# Altium integrated library Atmel CPLD Proprietary.IntLib: 178 symbols (part 2 of 5)
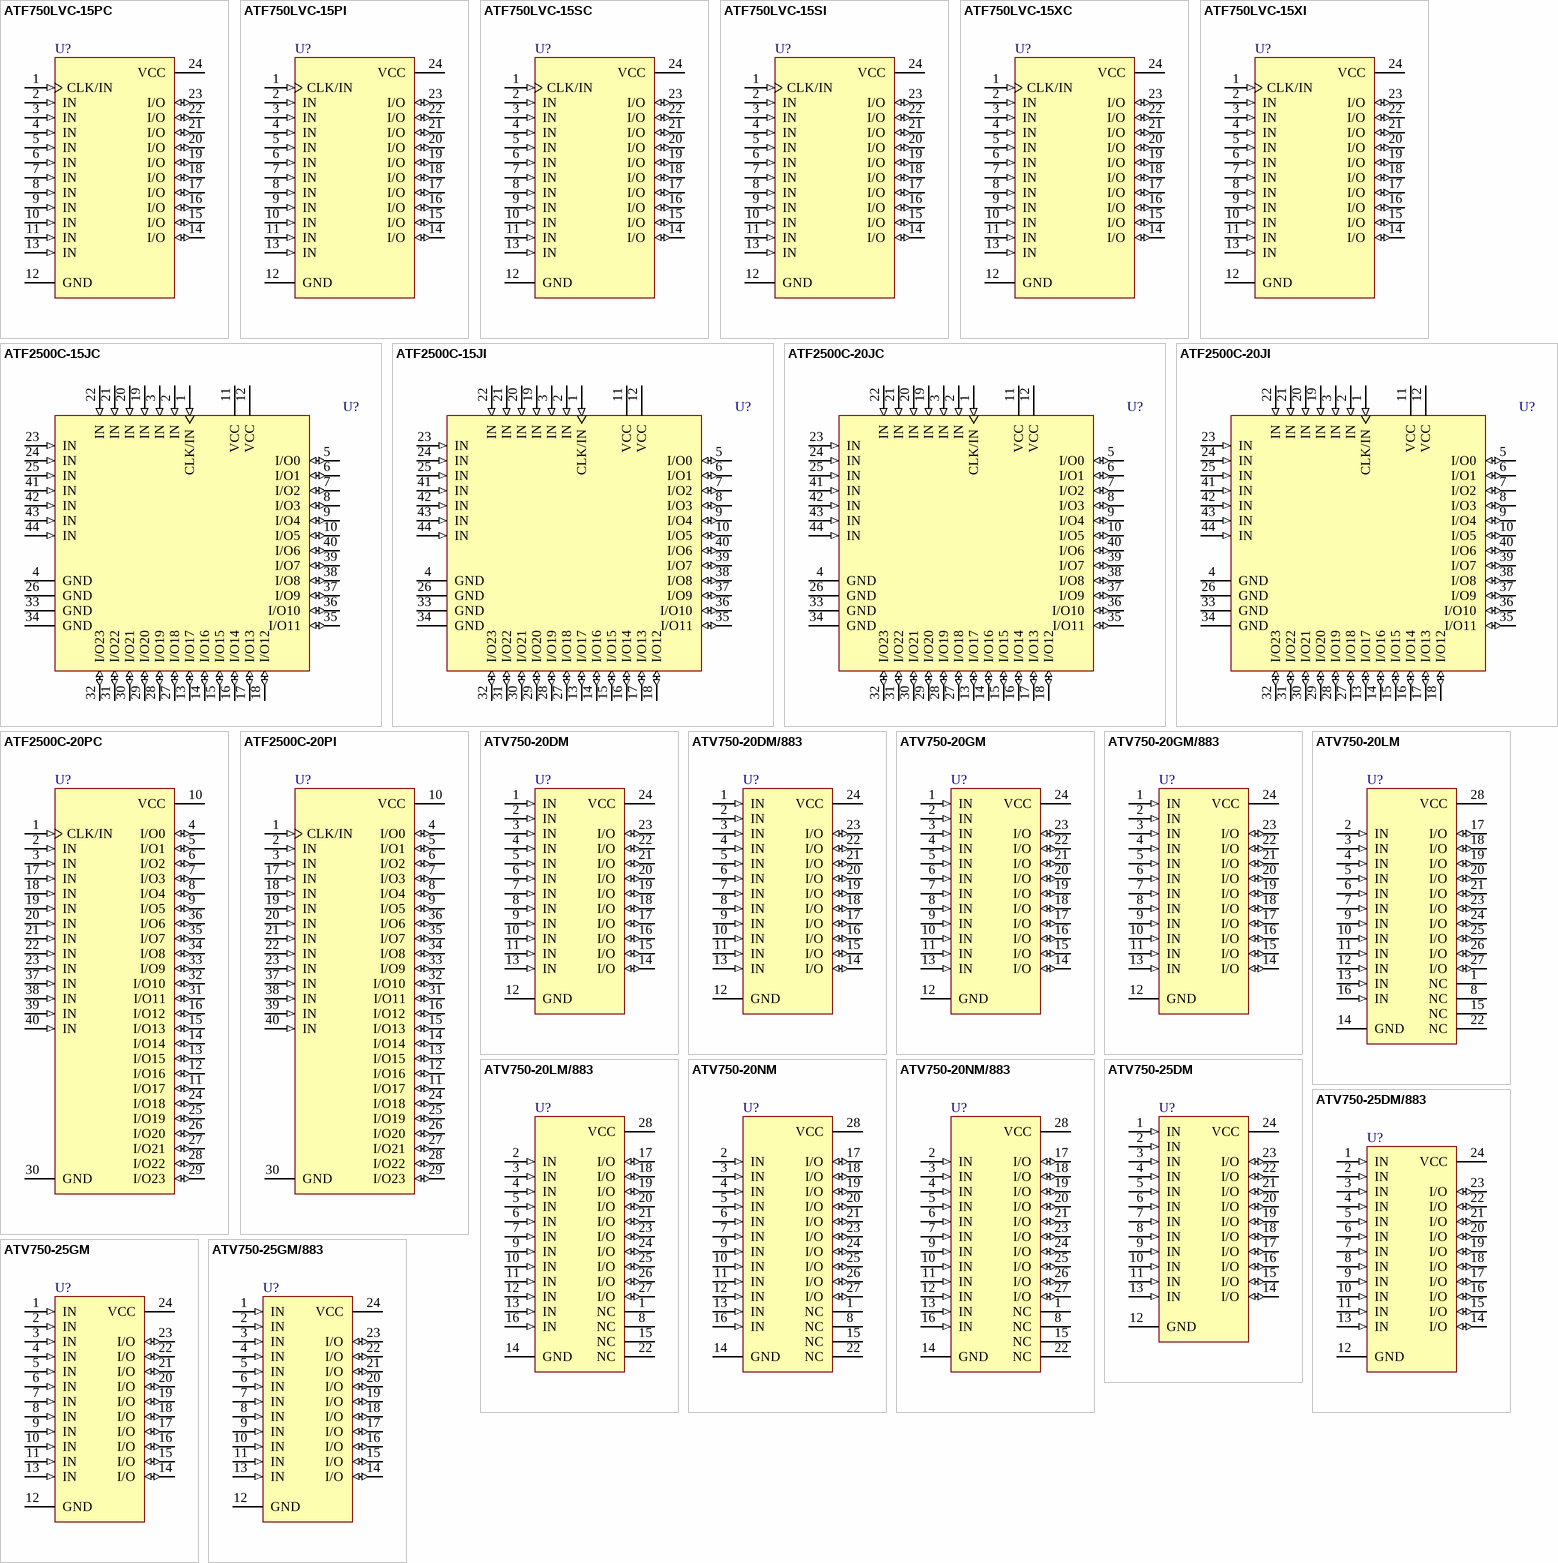
[diagram p11: symbols ATF750LVC-15PC to ATV750-25GM/883]

## ATV750-25GM/883
designator U?
ATV750 5.0V CPLD, 24-lead Non-windowed (OTP) CerDIP, Speed Grade 25, Military/883C Grade; DatasheetVersion: Rev. 0024F-11/99; PackageVersion: 1993; PackageReference: 24D3; PackageDescription: DIP, 24-Pin, Skinny Dual In-line Package, 300mil Wide, Pitch 2.54 mm; Code_JEDEC: MS-001-AF; ComponentLink1Description: Manufacturer URL; ComponentLink1URL: http://www.atmel.com/
footprint 24D3 (DIP, 24-Leads, Row Spacing 7.62mm, Pitch 2.54mm, Body 32x7.56mm)
pins: 1 IN (in), 2 IN (in), 3 IN (in), 4 IN (in), 5 IN (in), 6 IN (in), 7 IN (in), 8 IN (in), 9 IN (in), 10 IN (in), 11 IN (in), 12 GND (power), 13 IN (in), 14 I/O (io), 15 I/O (io), 16 I/O (io), 17 I/O (io), 18 I/O (io), 19 I/O (io), 20 I/O (io), 21 I/O (io), 22 I/O (io), 23 I/O (io), 24 VCC (power)

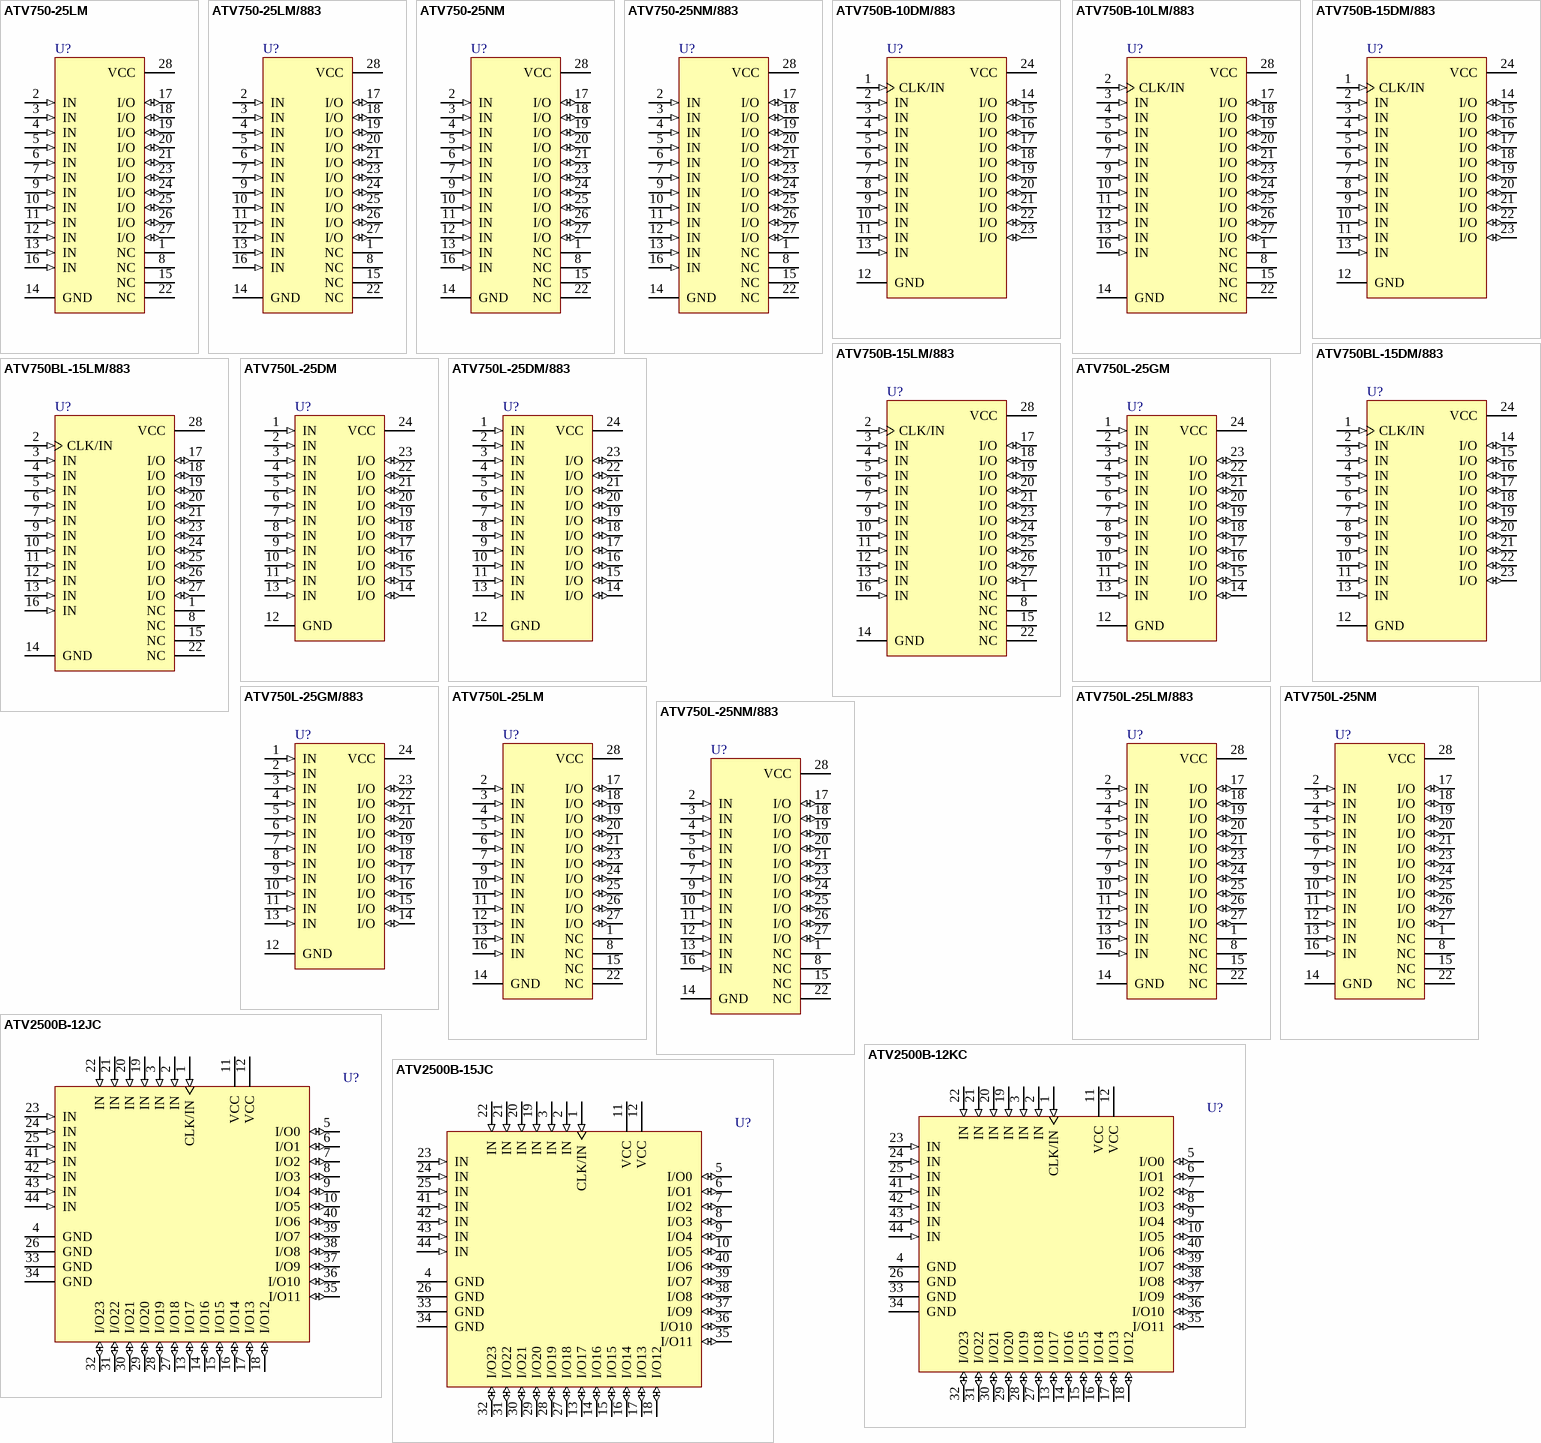
[diagram p2: symbols ATV750-25LM to ATV2500B-15JC]

## ATV750-25LM
designator U?
ATV750 5.0V CPLD, 28-pad Windowed LCC, Speed Grade 25, Military Grade; Note: Pins 1, 8, 15, and 22 are not internally connected.; DatasheetVersion: Rev. 0024F-11/99; PackageVersion: 1993; PackageReference: 28LW; PackageDescription: 28-Pin Window Ceramic Leadless Chip Carrier 1.27 mm Pitch; ComponentLink1Description: Manufacturer URL; ComponentLink1URL: http://www.atmel.com/
footprint 28LW_N (Leadless Chip Carrier, 28-Leads, Body 11.4x11.4mm, Pitch 1.27mm, IPC Medium Density)
footprint 28LW_L (Leadless Chip Carrier, 28-Leads, Body 11.4x11.4mm, Pitch 1.27mm, IPC High Density)
footprint 28LW_M (Leadless Chip Carrier, 28-Leads, Body 11.4x11.4mm, Pitch 1.27mm, IPC Low Density)
pins: 1 NC, 2 IN (in), 3 IN (in), 4 IN (in), 5 IN (in), 6 IN (in), 7 IN (in), 8 NC, 9 IN (in), 10 IN (in), 11 IN (in), 12 IN (in), 13 IN (in), 14 GND (power), 15 NC, 16 IN (in), 17 I/O (io), 18 I/O (io), 19 I/O (io), 20 I/O (io), 21 I/O (io), 22 NC, 23 I/O (io), 24 I/O (io), 25 I/O (io), 26 I/O (io), 27 I/O (io), 28 VCC (power)

## ATV750-25LM/883
designator U?
ATV750 5.0V CPLD, 28-pad Windowed LCC, Speed Grade 25, Military/883C Grade; Note: Pins 1, 8, 15, and 22 are not internally connected.; DatasheetVersion: Rev. 0024F-11/99; PackageVersion: 1993; PackageReference: 28LW; PackageDescription: 28-Pin Window Ceramic Leadless Chip Carrier 1.27 mm Pitch; ComponentLink1Description: Manufacturer URL; ComponentLink1URL: http://www.atmel.com/
footprint 28LW_N (Leadless Chip Carrier, 28-Leads, Body 11.4x11.4mm, Pitch 1.27mm, IPC Medium Density)
footprint 28LW_L (Leadless Chip Carrier, 28-Leads, Body 11.4x11.4mm, Pitch 1.27mm, IPC High Density)
footprint 28LW_M (Leadless Chip Carrier, 28-Leads, Body 11.4x11.4mm, Pitch 1.27mm, IPC Low Density)
pins: 1 NC, 2 IN (in), 3 IN (in), 4 IN (in), 5 IN (in), 6 IN (in), 7 IN (in), 8 NC, 9 IN (in), 10 IN (in), 11 IN (in), 12 IN (in), 13 IN (in), 14 GND (power), 15 NC, 16 IN (in), 17 I/O (io), 18 I/O (io), 19 I/O (io), 20 I/O (io), 21 I/O (io), 22 NC, 23 I/O (io), 24 I/O (io), 25 I/O (io), 26 I/O (io), 27 I/O (io), 28 VCC (power)

## ATV750-25NM
designator U?
ATV750 5.0V CPLD, 28-pad Non-windowed (OTP) LCC, Speed Grade 25, Military Grade; Note: Pins 1, 8, 15, and 22 are not internally connected.; DatasheetVersion: Rev. 0024F-11/99; PackageVersion: 1/12/1999; PackageReference: 28L; PackageDescription: 28-Pin Ceramic Leadless Chip Carrier 1.27 mm Pitch; ComponentLink1Description: Manufacturer URL; ComponentLink1URL: http://www.atmel.com/
footprint 28L_N (Leadless Chip Carrier, 28-Leads, Body 11.4x11.4mm, Pitch 1.27mm, IPC Medium Density)
footprint 28L_L (Leadless Chip Carrier, 28-Leads, Body 11.4x11.4mm, Pitch 1.27mm, IPC High Density)
footprint 28L_M (Leadless Chip Carrier, 28-Leads, Body 11.4x11.4mm, Pitch 1.27mm, IPC Low Density)
pins: 1 NC, 2 IN (in), 3 IN (in), 4 IN (in), 5 IN (in), 6 IN (in), 7 IN (in), 8 NC, 9 IN (in), 10 IN (in), 11 IN (in), 12 IN (in), 13 IN (in), 14 GND (power), 15 NC, 16 IN (in), 17 I/O (io), 18 I/O (io), 19 I/O (io), 20 I/O (io), 21 I/O (io), 22 NC, 23 I/O (io), 24 I/O (io), 25 I/O (io), 26 I/O (io), 27 I/O (io), 28 VCC (power)

## ATV750-25NM/883
designator U?
ATV750 5.0V CPLD, 28-pad Non-windowed (OTP) LCC, Speed Grade 25, Military/883C Grade; Note: Pins 1, 8, 15, and 22 are not internally connected.; DatasheetVersion: Rev. 0024F-11/99; PackageVersion: 1/12/1999; PackageReference: 28L; PackageDescription: 28-Pin Ceramic Leadless Chip Carrier 1.27 mm Pitch; ComponentLink1Description: Manufacturer URL; ComponentLink1URL: http://www.atmel.com/
footprint 28L_N (Leadless Chip Carrier, 28-Leads, Body 11.4x11.4mm, Pitch 1.27mm, IPC Medium Density)
footprint 28L_L (Leadless Chip Carrier, 28-Leads, Body 11.4x11.4mm, Pitch 1.27mm, IPC High Density)
footprint 28L_M (Leadless Chip Carrier, 28-Leads, Body 11.4x11.4mm, Pitch 1.27mm, IPC Low Density)
pins: 1 NC, 2 IN (in), 3 IN (in), 4 IN (in), 5 IN (in), 6 IN (in), 7 IN (in), 8 NC, 9 IN (in), 10 IN (in), 11 IN (in), 12 IN (in), 13 IN (in), 14 GND (power), 15 NC, 16 IN (in), 17 I/O (io), 18 I/O (io), 19 I/O (io), 20 I/O (io), 21 I/O (io), 22 NC, 23 I/O (io), 24 I/O (io), 25 I/O (io), 26 I/O (io), 27 I/O (io), 28 VCC (power)

## ATV750B-10DM/883
designator U?
ATV750B 5.0V CPLD, 24-lead Windowed CerDIP, Speed Grade 10, Military/883C Grade; DatasheetVersion: Rev. 0301I-08/01; PackageVersion: 1993; PackageReference: 24DW3; PackageDescription: DIP, 24-Pin, Skinny Dual In-line Package, 300mil Wide, Pitch 2.54 mm; Code_JEDEC: MS-001-AF; ComponentLink1Description: Manufacturer URL; ComponentLink1URL: http://www.atmel.com/; ComponentLink2Description: Datasheet; ComponentLink2URL: http://www.atmel.com/dyn/resources/prod_documents/DOC0301.PDF
footprint 24DW3 (DIP, 24-Leads, Row Spacing 7.62mm, Pitch 2.54mm, Body 32x7.56mm)
pins: 1 CLK/IN (in), 2 IN (in), 3 IN (in), 4 IN (in), 5 IN (in), 6 IN (in), 7 IN (in), 8 IN (in), 9 IN (in), 10 IN (in), 11 IN (in), 12 GND (power), 13 IN (in), 14 I/O (io), 15 I/O (io), 16 I/O (io), 17 I/O (io), 18 I/O (io), 19 I/O (io), 20 I/O (io), 21 I/O (io), 22 I/O (io), 23 I/O (io), 24 VCC (power)

## ATV750B-10LM/883
designator U?
ATV750B 5.0V CPLD, 28-pad Windowed LCC, Speed Grade 10, Military/883C Grade; Note: Pins 1, 8, 15, and 22 are not internally connected.; DatasheetVersion: Rev. 0301I-08/01; PackageVersion: 1993; PackageReference: 28LW; PackageDescription: 28-Pin Window Ceramic Leadless Chip Carrier 1.27 mm Pitch; ComponentLink1Description: Manufacturer URL; ComponentLink1URL: http://www.atmel.com/; ComponentLink2Description: Datasheet; ComponentLink2URL: http://www.atmel.com/dyn/resources/prod_documents/DOC0301.PDF
footprint 28LW_N (Leadless Chip Carrier, 28-Leads, Body 11.4x11.4mm, Pitch 1.27mm, IPC Medium Density)
footprint 28LW_L (Leadless Chip Carrier, 28-Leads, Body 11.4x11.4mm, Pitch 1.27mm, IPC High Density)
footprint 28LW_M (Leadless Chip Carrier, 28-Leads, Body 11.4x11.4mm, Pitch 1.27mm, IPC Low Density)
pins: 1 NC, 2 CLK/IN (in), 3 IN (in), 4 IN (in), 5 IN (in), 6 IN (in), 7 IN (in), 8 NC, 9 IN (in), 10 IN (in), 11 IN (in), 12 IN (in), 13 IN (in), 14 GND (power), 15 NC, 16 IN (in), 17 I/O (io), 18 I/O (io), 19 I/O (io), 20 I/O (io), 21 I/O (io), 22 NC, 23 I/O (io), 24 I/O (io), 25 I/O (io), 26 I/O (io), 27 I/O (io), 28 VCC (power)

## ATV750B-15DM/883
designator U?
ATV750B 5.0V CPLD, 24-lead Windowed CerDIP, Speed Grade 15, Military/883C Grade; DatasheetVersion: Rev. 0301I-08/01; PackageVersion: 1993; PackageReference: 24DW3; PackageDescription: DIP, 24-Pin, Skinny Dual In-line Package, 300mil Wide, Pitch 2.54 mm; Code_JEDEC: MS-001-AF; ComponentLink1Description: Manufacturer URL; ComponentLink1URL: http://www.atmel.com/; ComponentLink2Description: Datasheet; ComponentLink2URL: http://www.atmel.com/dyn/resources/prod_documents/DOC0301.PDF
footprint 24DW3 (DIP, 24-Leads, Row Spacing 7.62mm, Pitch 2.54mm, Body 32x7.56mm)
pins: 1 CLK/IN (in), 2 IN (in), 3 IN (in), 4 IN (in), 5 IN (in), 6 IN (in), 7 IN (in), 8 IN (in), 9 IN (in), 10 IN (in), 11 IN (in), 12 GND (power), 13 IN (in), 14 I/O (io), 15 I/O (io), 16 I/O (io), 17 I/O (io), 18 I/O (io), 19 I/O (io), 20 I/O (io), 21 I/O (io), 22 I/O (io), 23 I/O (io), 24 VCC (power)

## ATV750B-15LM/883
designator U?
ATV750B 5.0V CPLD, 28-pad Windowed LCC, Speed Grade 15, Military/883C Grade; Note: Pins 1, 8, 15, and 22 are not internally connected.; DatasheetVersion: Rev. 0301I-08/01; PackageVersion: 1993; PackageReference: 28LW; PackageDescription: 28-Pin Window Ceramic Leadless Chip Carrier 1.27 mm Pitch; ComponentLink1Description: Manufacturer URL; ComponentLink1URL: http://www.atmel.com/; ComponentLink2Description: Datasheet; ComponentLink2URL: http://www.atmel.com/dyn/resources/prod_documents/DOC0301.PDF
footprint 28LW_N (Leadless Chip Carrier, 28-Leads, Body 11.4x11.4mm, Pitch 1.27mm, IPC Medium Density)
footprint 28LW_L (Leadless Chip Carrier, 28-Leads, Body 11.4x11.4mm, Pitch 1.27mm, IPC High Density)
footprint 28LW_M (Leadless Chip Carrier, 28-Leads, Body 11.4x11.4mm, Pitch 1.27mm, IPC Low Density)
pins: 1 NC, 2 CLK/IN (in), 3 IN (in), 4 IN (in), 5 IN (in), 6 IN (in), 7 IN (in), 8 NC, 9 IN (in), 10 IN (in), 11 IN (in), 12 IN (in), 13 IN (in), 14 GND (power), 15 NC, 16 IN (in), 17 I/O (io), 18 I/O (io), 19 I/O (io), 20 I/O (io), 21 I/O (io), 22 NC, 23 I/O (io), 24 I/O (io), 25 I/O (io), 26 I/O (io), 27 I/O (io), 28 VCC (power)

## ATV750BL-15DM/883
designator U?
ATV750BL 5.0V CPLD, 24-lead Windowed CerDIP, Speed Grade 15, Military/883C Grade; DatasheetVersion: Rev. 0301I-08/01; PackageVersion: 1993; PackageReference: 24DW3; PackageDescription: DIP, 24-Pin, Skinny Dual In-line Package, 300mil Wide, Pitch 2.54 mm; Code_JEDEC: MS-001-AF; ComponentLink1Description: Manufacturer URL; ComponentLink1URL: http://www.atmel.com/; ComponentLink2Description: Datasheet; ComponentLink2URL: http://www.atmel.com/dyn/resources/prod_documents/DOC0301.PDF
footprint 24DW3 (DIP, 24-Leads, Row Spacing 7.62mm, Pitch 2.54mm, Body 32x7.56mm)
pins: 1 CLK/IN (in), 2 IN (in), 3 IN (in), 4 IN (in), 5 IN (in), 6 IN (in), 7 IN (in), 8 IN (in), 9 IN (in), 10 IN (in), 11 IN (in), 12 GND (power), 13 IN (in), 14 I/O (io), 15 I/O (io), 16 I/O (io), 17 I/O (io), 18 I/O (io), 19 I/O (io), 20 I/O (io), 21 I/O (io), 22 I/O (io), 23 I/O (io), 24 VCC (power)

## ATV750BL-15LM/883
designator U?
ATV750BL 5.0V CPLD, 28-pad Windowed LCC, Speed Grade 15, Military/883C Grade; Note: Pins 1, 8, 15, and 22 are not internally connected.; DatasheetVersion: Rev. 0301I-08/01; PackageVersion: 1993; PackageReference: 28LW; PackageDescription: 28-Pin Window Ceramic Leadless Chip Carrier 1.27 mm Pitch; ComponentLink1Description: Manufacturer URL; ComponentLink1URL: http://www.atmel.com/; ComponentLink2Description: Datasheet; ComponentLink2URL: http://www.atmel.com/dyn/resources/prod_documents/DOC0301.PDF
footprint 28LW_N (Leadless Chip Carrier, 28-Leads, Body 11.4x11.4mm, Pitch 1.27mm, IPC Medium Density)
footprint 28LW_L (Leadless Chip Carrier, 28-Leads, Body 11.4x11.4mm, Pitch 1.27mm, IPC High Density)
footprint 28LW_M (Leadless Chip Carrier, 28-Leads, Body 11.4x11.4mm, Pitch 1.27mm, IPC Low Density)
pins: 1 NC, 2 CLK/IN (in), 3 IN (in), 4 IN (in), 5 IN (in), 6 IN (in), 7 IN (in), 8 NC, 9 IN (in), 10 IN (in), 11 IN (in), 12 IN (in), 13 IN (in), 14 GND (power), 15 NC, 16 IN (in), 17 I/O (io), 18 I/O (io), 19 I/O (io), 20 I/O (io), 21 I/O (io), 22 NC, 23 I/O (io), 24 I/O (io), 25 I/O (io), 26 I/O (io), 27 I/O (io), 28 VCC (power)

## ATV750L-25DM
designator U?
ATV750L 5.0V CPLD, 24-lead Windowed CerDIP, Speed Grade 25, Military Grade; DatasheetVersion: Rev. 0024F-11/99; PackageVersion: 1993; PackageReference: 24DW3; PackageDescription: DIP, 24-Pin, Skinny Dual In-line Package, 300mil Wide, Pitch 2.54 mm; Code_JEDEC: MS-001-AF; ComponentLink1Description: Manufacturer URL; ComponentLink1URL: http://www.atmel.com/
footprint 24DW3 (DIP, 24-Leads, Row Spacing 7.62mm, Pitch 2.54mm, Body 32x7.56mm)
pins: 1 IN (in), 2 IN (in), 3 IN (in), 4 IN (in), 5 IN (in), 6 IN (in), 7 IN (in), 8 IN (in), 9 IN (in), 10 IN (in), 11 IN (in), 12 GND (power), 13 IN (in), 14 I/O (io), 15 I/O (io), 16 I/O (io), 17 I/O (io), 18 I/O (io), 19 I/O (io), 20 I/O (io), 21 I/O (io), 22 I/O (io), 23 I/O (io), 24 VCC (power)

## ATV750L-25DM/883
designator U?
ATV750L 5.0V CPLD, 24-lead Windowed CerDIP, Speed Grade 25, Military/883C Grade; DatasheetVersion: Rev. 0024F-11/99; PackageVersion: 1993; PackageReference: 24DW3; PackageDescription: DIP, 24-Pin, Skinny Dual In-line Package, 300mil Wide, Pitch 2.54 mm; Code_JEDEC: MS-001-AF; ComponentLink1Description: Manufacturer URL; ComponentLink1URL: http://www.atmel.com/
footprint 24DW3 (DIP, 24-Leads, Row Spacing 7.62mm, Pitch 2.54mm, Body 32x7.56mm)
pins: 1 IN (in), 2 IN (in), 3 IN (in), 4 IN (in), 5 IN (in), 6 IN (in), 7 IN (in), 8 IN (in), 9 IN (in), 10 IN (in), 11 IN (in), 12 GND (power), 13 IN (in), 14 I/O (io), 15 I/O (io), 16 I/O (io), 17 I/O (io), 18 I/O (io), 19 I/O (io), 20 I/O (io), 21 I/O (io), 22 I/O (io), 23 I/O (io), 24 VCC (power)

## ATV750L-25GM
designator U?
ATV750L 5.0V CPLD, 24-lead Non-windowed (OTP) CerDIP, Speed Grade 25, Military Grade; DatasheetVersion: Rev. 0024F-11/99; PackageVersion: 1993; PackageReference: 24D3; PackageDescription: DIP, 24-Pin, Skinny Dual In-line Package, 300mil Wide, Pitch 2.54 mm; Code_JEDEC: MS-001-AF; ComponentLink1Description: Manufacturer URL; ComponentLink1URL: http://www.atmel.com/
footprint 24D3 (DIP, 24-Leads, Row Spacing 7.62mm, Pitch 2.54mm, Body 32x7.56mm)
pins: 1 IN (in), 2 IN (in), 3 IN (in), 4 IN (in), 5 IN (in), 6 IN (in), 7 IN (in), 8 IN (in), 9 IN (in), 10 IN (in), 11 IN (in), 12 GND (power), 13 IN (in), 14 I/O (io), 15 I/O (io), 16 I/O (io), 17 I/O (io), 18 I/O (io), 19 I/O (io), 20 I/O (io), 21 I/O (io), 22 I/O (io), 23 I/O (io), 24 VCC (power)

## ATV750L-25GM/883
designator U?
ATV750L 5.0V CPLD, 24-lead Non-windowed (OTP) CerDIP, Speed Grade 25, Military/883C Grade; DatasheetVersion: Rev. 0024F-11/99; PackageVersion: 1993; PackageReference: 24D3; PackageDescription: DIP, 24-Pin, Skinny Dual In-line Package, 300mil Wide, Pitch 2.54 mm; Code_JEDEC: MS-001-AF; ComponentLink1Description: Manufacturer URL; ComponentLink1URL: http://www.atmel.com/
footprint 24D3 (DIP, 24-Leads, Row Spacing 7.62mm, Pitch 2.54mm, Body 32x7.56mm)
pins: 1 IN (in), 2 IN (in), 3 IN (in), 4 IN (in), 5 IN (in), 6 IN (in), 7 IN (in), 8 IN (in), 9 IN (in), 10 IN (in), 11 IN (in), 12 GND (power), 13 IN (in), 14 I/O (io), 15 I/O (io), 16 I/O (io), 17 I/O (io), 18 I/O (io), 19 I/O (io), 20 I/O (io), 21 I/O (io), 22 I/O (io), 23 I/O (io), 24 VCC (power)

## ATV750L-25LM
designator U?
ATV750L 5.0V CPLD, 28-pad Windowed LCC, Speed Grade 25, Military Grade; Note: Pins 1, 8, 15, and 22 are not internally connected.; DatasheetVersion: Rev. 0024F-11/99; PackageVersion: 1993; PackageReference: 28LW; PackageDescription: 28-Pin Window Ceramic Leadless Chip Carrier 1.27 mm Pitch; ComponentLink1Description: Manufacturer URL; ComponentLink1URL: http://www.atmel.com/
footprint 28LW_N (Leadless Chip Carrier, 28-Leads, Body 11.4x11.4mm, Pitch 1.27mm, IPC Medium Density)
footprint 28LW_L (Leadless Chip Carrier, 28-Leads, Body 11.4x11.4mm, Pitch 1.27mm, IPC High Density)
footprint 28LW_M (Leadless Chip Carrier, 28-Leads, Body 11.4x11.4mm, Pitch 1.27mm, IPC Low Density)
pins: 1 NC, 2 IN (in), 3 IN (in), 4 IN (in), 5 IN (in), 6 IN (in), 7 IN (in), 8 NC, 9 IN (in), 10 IN (in), 11 IN (in), 12 IN (in), 13 IN (in), 14 GND (power), 15 NC, 16 IN (in), 17 I/O (io), 18 I/O (io), 19 I/O (io), 20 I/O (io), 21 I/O (io), 22 NC, 23 I/O (io), 24 I/O (io), 25 I/O (io), 26 I/O (io), 27 I/O (io), 28 VCC (power)

## ATV750L-25LM/883
designator U?
ATV750L 5.0V CPLD, 28-pad Windowed LCC, Speed Grade 25, Military/883C Grade; Note: Pins 1, 8, 15, and 22 are not internally connected.; DatasheetVersion: Rev. 0024F-11/99; PackageVersion: 1993; PackageReference: 28LW; PackageDescription: 28-Pin Window Ceramic Leadless Chip Carrier 1.27 mm Pitch; ComponentLink1Description: Manufacturer URL; ComponentLink1URL: http://www.atmel.com/
footprint 28LW_N (Leadless Chip Carrier, 28-Leads, Body 11.4x11.4mm, Pitch 1.27mm, IPC Medium Density)
footprint 28LW_L (Leadless Chip Carrier, 28-Leads, Body 11.4x11.4mm, Pitch 1.27mm, IPC High Density)
footprint 28LW_M (Leadless Chip Carrier, 28-Leads, Body 11.4x11.4mm, Pitch 1.27mm, IPC Low Density)
pins: 1 NC, 2 IN (in), 3 IN (in), 4 IN (in), 5 IN (in), 6 IN (in), 7 IN (in), 8 NC, 9 IN (in), 10 IN (in), 11 IN (in), 12 IN (in), 13 IN (in), 14 GND (power), 15 NC, 16 IN (in), 17 I/O (io), 18 I/O (io), 19 I/O (io), 20 I/O (io), 21 I/O (io), 22 NC, 23 I/O (io), 24 I/O (io), 25 I/O (io), 26 I/O (io), 27 I/O (io), 28 VCC (power)

## ATV750L-25NM
designator U?
ATV750L 5.0V CPLD, 28-pad Non-windowed (OTP) LCC, Speed Grade 25, Military Grade; Note: Pins 1, 8, 15, and 22 are not internally connected.; DatasheetVersion: Rev. 0024F-11/99; PackageVersion: 1/12/1999; PackageReference: 28L; PackageDescription: 28-Pin Ceramic Leadless Chip Carrier 1.27 mm Pitch; ComponentLink1Description: Manufacturer URL; ComponentLink1URL: http://www.atmel.com/
footprint 28L_N (Leadless Chip Carrier, 28-Leads, Body 11.4x11.4mm, Pitch 1.27mm, IPC Medium Density)
footprint 28L_L (Leadless Chip Carrier, 28-Leads, Body 11.4x11.4mm, Pitch 1.27mm, IPC High Density)
footprint 28L_M (Leadless Chip Carrier, 28-Leads, Body 11.4x11.4mm, Pitch 1.27mm, IPC Low Density)
pins: 1 NC, 2 IN (in), 3 IN (in), 4 IN (in), 5 IN (in), 6 IN (in), 7 IN (in), 8 NC, 9 IN (in), 10 IN (in), 11 IN (in), 12 IN (in), 13 IN (in), 14 GND (power), 15 NC, 16 IN (in), 17 I/O (io), 18 I/O (io), 19 I/O (io), 20 I/O (io), 21 I/O (io), 22 NC, 23 I/O (io), 24 I/O (io), 25 I/O (io), 26 I/O (io), 27 I/O (io), 28 VCC (power)

## ATV750L-25NM/883
designator U?
ATV750L 5.0V CPLD, 28-pad Non-windowed (OTP) LCC, Speed Grade 25, Military/883C Grade; Note: Pins 1, 8, 15, and 22 are not internally connected.; DatasheetVersion: Rev. 0024F-11/99; PackageVersion: 1/12/1999; PackageReference: 28L; PackageDescription: 28-Pin Ceramic Leadless Chip Carrier 1.27 mm Pitch; ComponentLink1Description: Manufacturer URL; ComponentLink1URL: http://www.atmel.com/
footprint 28L_N (Leadless Chip Carrier, 28-Leads, Body 11.4x11.4mm, Pitch 1.27mm, IPC Medium Density)
footprint 28L_L (Leadless Chip Carrier, 28-Leads, Body 11.4x11.4mm, Pitch 1.27mm, IPC High Density)
footprint 28L_M (Leadless Chip Carrier, 28-Leads, Body 11.4x11.4mm, Pitch 1.27mm, IPC Low Density)
pins: 1 NC, 2 IN (in), 3 IN (in), 4 IN (in), 5 IN (in), 6 IN (in), 7 IN (in), 8 NC, 9 IN (in), 10 IN (in), 11 IN (in), 12 IN (in), 13 IN (in), 14 GND (power), 15 NC, 16 IN (in), 17 I/O (io), 18 I/O (io), 19 I/O (io), 20 I/O (io), 21 I/O (io), 22 NC, 23 I/O (io), 24 I/O (io), 25 I/O (io), 26 I/O (io), 27 I/O (io), 28 VCC (power)

## ATV2500B-12JC
designator U?
ATV2500B 5.0V CPLD, 24 Macrocells, 44-lead Non-windowed (OTP) PLCC, Speed Grade 12, Commercial Grade; DatasheetVersion: Rev. 0249J-05/00; PackageVersion: rev.B, Oct-2001; PackageReference: 44J; PackageDescription: 44-Pin Plastic J-Leaded Chip Carrier 1.27 mm Pitch (PLCC); Code_JEDEC: MS-018-AC; Code_IPC: PLCC-44; ComponentLink1Description: Manufacturer URL; ComponentLink1URL: http://www.atmel.com/; ComponentLink2Description: Datasheet; ComponentLink2URL: http://www.atmel.com/dyn/resources/prod_documents/DOC0249.PDF
footprint 44J_N (Leaded Chip Carrier, 44-Leads, Body 16.6x16.6mm, Pitch 1.27mm, IPC Medium Density)
footprint 44J_L (Leaded Chip Carrier, 44-Leads, Body 16.6x16.6mm, Pitch 1.27mm, IPC High Density)
footprint 44J_M (Leaded Chip Carrier, 44-Leads, Body 16.6x16.6mm, Pitch 1.27mm, IPC Low Density)
pins: 1 CLK/IN (in), 2 IN (in), 3 IN (in), 4 GND (power), 5 I/O0 (io), 6 I/O1 (io), 7 I/O2 (io), 8 I/O3 (io), 9 I/O4 (io), 10 I/O5 (io), 11 VCC (power), 12 VCC (power), 13 I/O17 (io), 14 I/O16 (io), 15 I/O15 (io), 16 I/O14 (io), 17 I/O13 (io), 18 I/O12 (io), 19 IN (in), 20 IN (in), 21 IN (in), 22 IN (in), 23 IN (in), 24 IN (in), 25 IN (in), 26 GND (power), 27 I/O18 (io), 28 I/O19 (io), 29 I/O20 (io), 30 I/O21 (io), 31 I/O22 (io), 32 I/O23 (io), 33 GND (power), 34 GND (power), 35 I/O11 (io), 36 I/O10 (io), 37 I/O9 (io), 38 I/O8 (io), 39 I/O7 (io), 40 I/O6 (io), 41 IN (in), 42 IN (in), 43 IN (in), 44 IN (in)

## ATV2500B-12KC
designator U?
ATV2500B 5.0V CPLD, 24 Macrocells, 44-lead Windowed JLCC, Speed Grade 12, Commercial Grade; DatasheetVersion: Rev. 0249J-05/00; PackageVersion: 1/12/1999; PackageReference: 44KW; PackageDescription: 44-Pin Window Ceramic Leaded Chip Carrier 1.27 mm Pitch; Code_IPC: PLCC-44; ComponentLink1Description: Manufacturer URL; ComponentLink1URL: http://www.atmel.com/; ComponentLink2Description: Datasheet; ComponentLink2URL: http://www.atmel.com/dyn/resources/prod_documents/DOC0249.PDF
footprint 44KW_N (Leaded Chip Carrier, 44-Leads, Body 16.7x16.7mm, Pitch 1.27mm, IPC Medium Density)
footprint 44KW_L (Leaded Chip Carrier, 44-Leads, Body 16.7x16.7mm, Pitch 1.27mm, IPC High Density)
footprint 44KW_M (Leaded Chip Carrier, 44-Leads, Body 16.7x16.7mm, Pitch 1.27mm, IPC Low Density)
pins: 1 CLK/IN (in), 2 IN (in), 3 IN (in), 4 GND (power), 5 I/O0 (io), 6 I/O1 (io), 7 I/O2 (io), 8 I/O3 (io), 9 I/O4 (io), 10 I/O5 (io), 11 VCC (power), 12 VCC (power), 13 I/O17 (io), 14 I/O16 (io), 15 I/O15 (io), 16 I/O14 (io), 17 I/O13 (io), 18 I/O12 (io), 19 IN (in), 20 IN (in), 21 IN (in), 22 IN (in), 23 IN (in), 24 IN (in), 25 IN (in), 26 GND (power), 27 I/O18 (io), 28 I/O19 (io), 29 I/O20 (io), 30 I/O21 (io), 31 I/O22 (io), 32 I/O23 (io), 33 GND (power), 34 GND (power), 35 I/O11 (io), 36 I/O10 (io), 37 I/O9 (io), 38 I/O8 (io), 39 I/O7 (io), 40 I/O6 (io), 41 IN (in), 42 IN (in), 43 IN (in), 44 IN (in)

## ATV2500B-15JC
designator U?
ATV2500B 5.0V CPLD, 24 Macrocells, 44-lead Non-windowed (OTP) PLCC, Speed Grade 15, Commercial Grade; DatasheetVersion: Rev. 0249J-05/00; PackageVersion: rev.B, Oct-2001; PackageReference: 44J; PackageDescription: 44-Pin Plastic J-Leaded Chip Carrier 1.27 mm Pitch (PLCC); Code_JEDEC: MS-018-AC; Code_IPC: PLCC-44; ComponentLink1Description: Manufacturer URL; ComponentLink1URL: http://www.atmel.com/; ComponentLink2Description: Datasheet; ComponentLink2URL: http://www.atmel.com/dyn/resources/prod_documents/DOC0249.PDF
footprint 44J_N (Leaded Chip Carrier, 44-Leads, Body 16.6x16.6mm, Pitch 1.27mm, IPC Medium Density)
footprint 44J_L (Leaded Chip Carrier, 44-Leads, Body 16.6x16.6mm, Pitch 1.27mm, IPC High Density)
footprint 44J_M (Leaded Chip Carrier, 44-Leads, Body 16.6x16.6mm, Pitch 1.27mm, IPC Low Density)
pins: 1 CLK/IN (in), 2 IN (in), 3 IN (in), 4 GND (power), 5 I/O0 (io), 6 I/O1 (io), 7 I/O2 (io), 8 I/O3 (io), 9 I/O4 (io), 10 I/O5 (io), 11 VCC (power), 12 VCC (power), 13 I/O17 (io), 14 I/O16 (io), 15 I/O15 (io), 16 I/O14 (io), 17 I/O13 (io), 18 I/O12 (io), 19 IN (in), 20 IN (in), 21 IN (in), 22 IN (in), 23 IN (in), 24 IN (in), 25 IN (in), 26 GND (power), 27 I/O18 (io), 28 I/O19 (io), 29 I/O20 (io), 30 I/O21 (io), 31 I/O22 (io), 32 I/O23 (io), 33 GND (power), 34 GND (power), 35 I/O11 (io), 36 I/O10 (io), 37 I/O9 (io), 38 I/O8 (io), 39 I/O7 (io), 40 I/O6 (io), 41 IN (in), 42 IN (in), 43 IN (in), 44 IN (in)

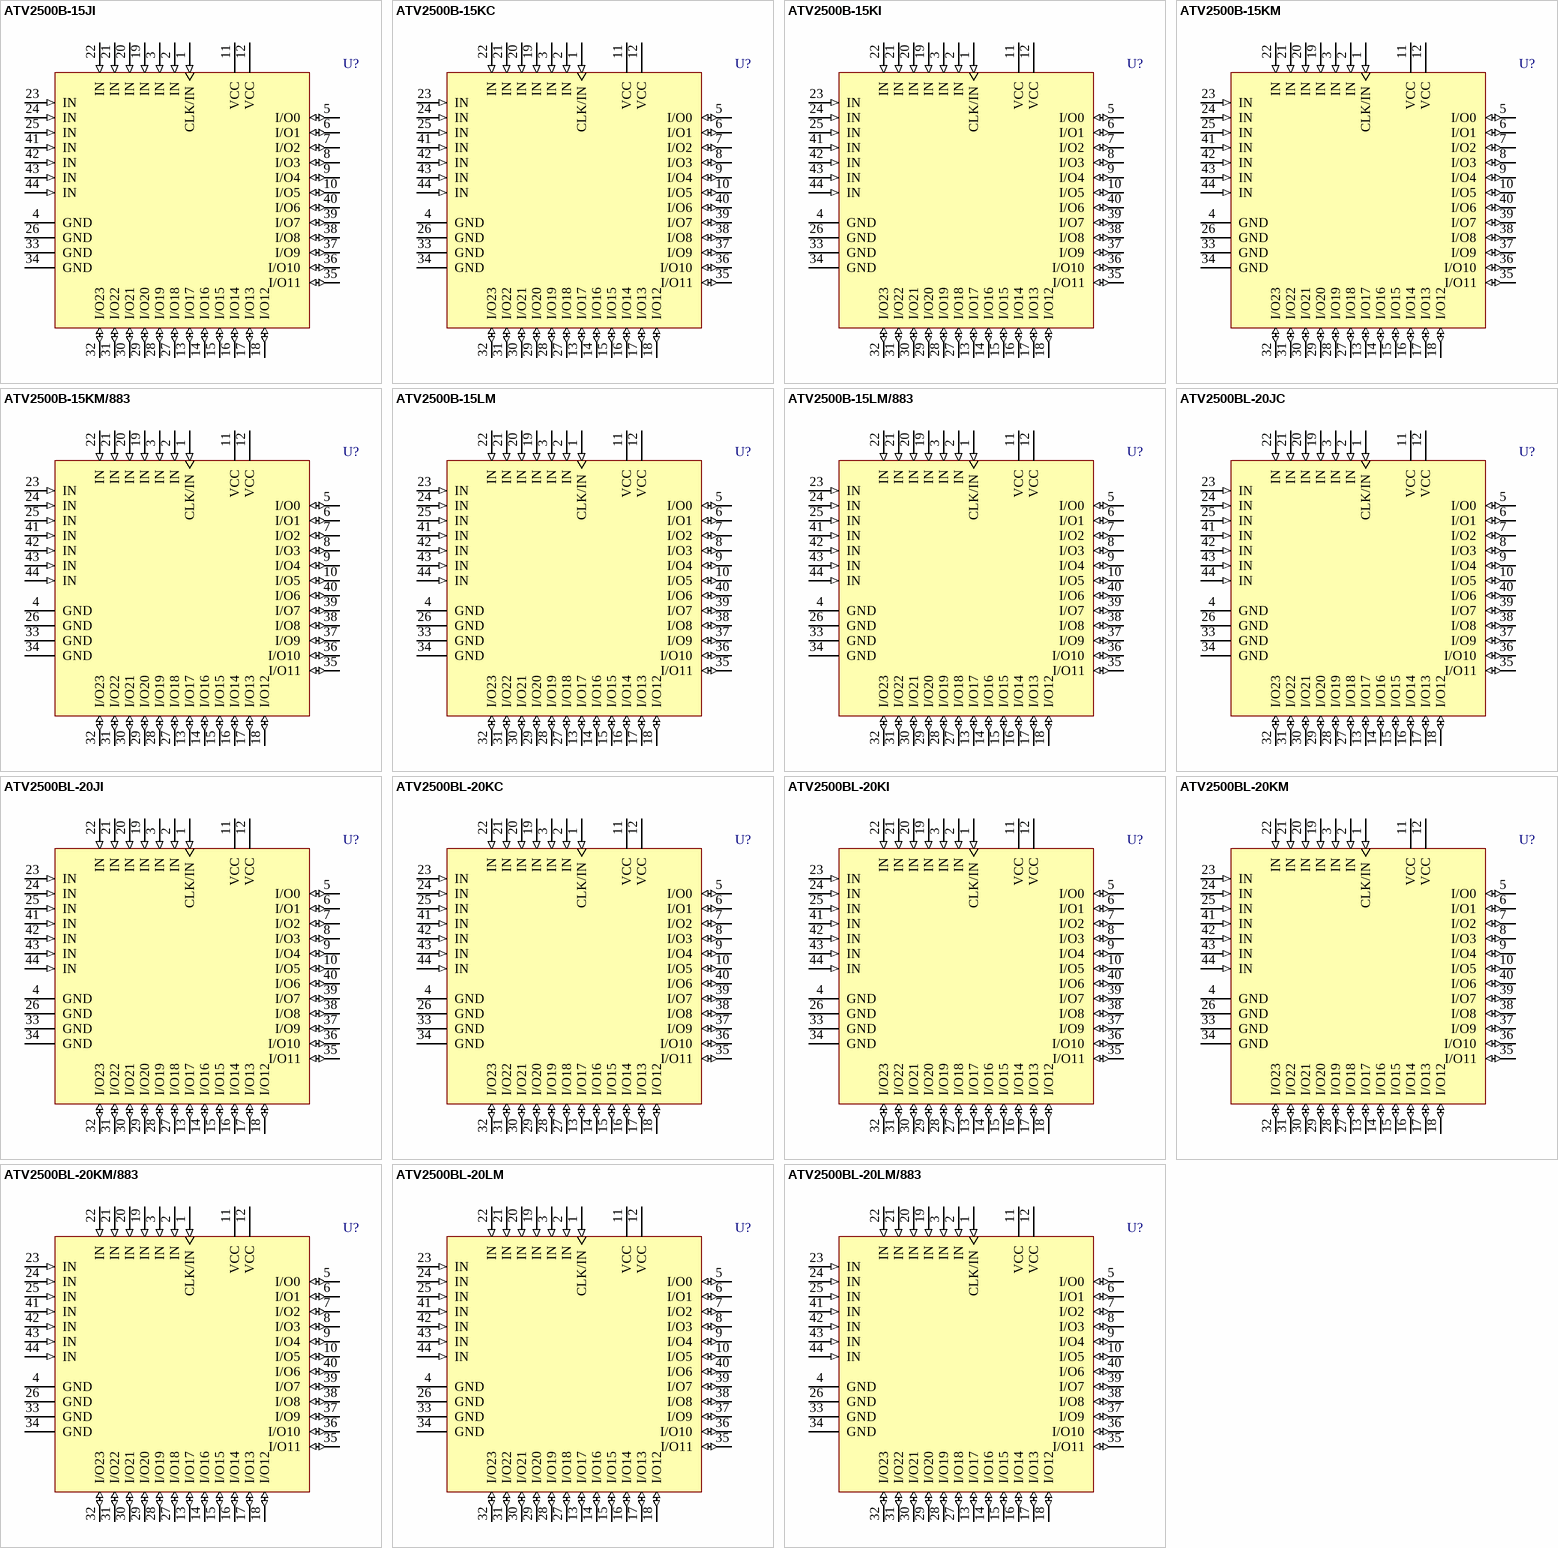
[diagram p3: symbols ATV2500B-15JI to ATV2500BL-20LM/883]

## ATV2500B-15JI
designator U?
ATV2500B 5.0V CPLD, 24 Macrocells, 44-lead Non-windowed (OTP) PLCC, Speed Grade 15, Industrial Grade; DatasheetVersion: Rev. 0249J-05/00; PackageVersion: rev.B, Oct-2001; PackageReference: 44J; PackageDescription: 44-Pin Plastic J-Leaded Chip Carrier 1.27 mm Pitch (PLCC); Code_JEDEC: MS-018-AC; Code_IPC: PLCC-44; ComponentLink1Description: Manufacturer URL; ComponentLink1URL: http://www.atmel.com/; ComponentLink2Description: Datasheet; ComponentLink2URL: http://www.atmel.com/dyn/resources/prod_documents/DOC0249.PDF
footprint 44J_N (Leaded Chip Carrier, 44-Leads, Body 16.6x16.6mm, Pitch 1.27mm, IPC Medium Density)
footprint 44J_L (Leaded Chip Carrier, 44-Leads, Body 16.6x16.6mm, Pitch 1.27mm, IPC High Density)
footprint 44J_M (Leaded Chip Carrier, 44-Leads, Body 16.6x16.6mm, Pitch 1.27mm, IPC Low Density)
pins: 1 CLK/IN (in), 2 IN (in), 3 IN (in), 4 GND (power), 5 I/O0 (io), 6 I/O1 (io), 7 I/O2 (io), 8 I/O3 (io), 9 I/O4 (io), 10 I/O5 (io), 11 VCC (power), 12 VCC (power), 13 I/O17 (io), 14 I/O16 (io), 15 I/O15 (io), 16 I/O14 (io), 17 I/O13 (io), 18 I/O12 (io), 19 IN (in), 20 IN (in), 21 IN (in), 22 IN (in), 23 IN (in), 24 IN (in), 25 IN (in), 26 GND (power), 27 I/O18 (io), 28 I/O19 (io), 29 I/O20 (io), 30 I/O21 (io), 31 I/O22 (io), 32 I/O23 (io), 33 GND (power), 34 GND (power), 35 I/O11 (io), 36 I/O10 (io), 37 I/O9 (io), 38 I/O8 (io), 39 I/O7 (io), 40 I/O6 (io), 41 IN (in), 42 IN (in), 43 IN (in), 44 IN (in)

## ATV2500B-15KC
designator U?
ATV2500B 5.0V CPLD, 24 Macrocells, 44-lead Windowed JLCC, Speed Grade 15, Commercial Grade; DatasheetVersion: Rev. 0249J-05/00; PackageVersion: 1/12/1999; PackageReference: 44KW; PackageDescription: 44-Pin Window Ceramic Leaded Chip Carrier 1.27 mm Pitch; Code_IPC: PLCC-44; ComponentLink1Description: Manufacturer URL; ComponentLink1URL: http://www.atmel.com/; ComponentLink2Description: Datasheet; ComponentLink2URL: http://www.atmel.com/dyn/resources/prod_documents/DOC0249.PDF
footprint 44KW_N (Leaded Chip Carrier, 44-Leads, Body 16.7x16.7mm, Pitch 1.27mm, IPC Medium Density)
footprint 44KW_L (Leaded Chip Carrier, 44-Leads, Body 16.7x16.7mm, Pitch 1.27mm, IPC High Density)
footprint 44KW_M (Leaded Chip Carrier, 44-Leads, Body 16.7x16.7mm, Pitch 1.27mm, IPC Low Density)
pins: 1 CLK/IN (in), 2 IN (in), 3 IN (in), 4 GND (power), 5 I/O0 (io), 6 I/O1 (io), 7 I/O2 (io), 8 I/O3 (io), 9 I/O4 (io), 10 I/O5 (io), 11 VCC (power), 12 VCC (power), 13 I/O17 (io), 14 I/O16 (io), 15 I/O15 (io), 16 I/O14 (io), 17 I/O13 (io), 18 I/O12 (io), 19 IN (in), 20 IN (in), 21 IN (in), 22 IN (in), 23 IN (in), 24 IN (in), 25 IN (in), 26 GND (power), 27 I/O18 (io), 28 I/O19 (io), 29 I/O20 (io), 30 I/O21 (io), 31 I/O22 (io), 32 I/O23 (io), 33 GND (power), 34 GND (power), 35 I/O11 (io), 36 I/O10 (io), 37 I/O9 (io), 38 I/O8 (io), 39 I/O7 (io), 40 I/O6 (io), 41 IN (in), 42 IN (in), 43 IN (in), 44 IN (in)

## ATV2500B-15KI
designator U?
ATV2500B 5.0V CPLD, 24 Macrocells, 44-lead Windowed JLCC, Speed Grade 15, Industrial Grade; DatasheetVersion: Rev. 0249J-05/00; PackageVersion: 1/12/1999; PackageReference: 44KW; PackageDescription: 44-Pin Window Ceramic Leaded Chip Carrier 1.27 mm Pitch; Code_IPC: PLCC-44; ComponentLink1Description: Manufacturer URL; ComponentLink1URL: http://www.atmel.com/; ComponentLink2Description: Datasheet; ComponentLink2URL: http://www.atmel.com/dyn/resources/prod_documents/DOC0249.PDF
footprint 44KW_N (Leaded Chip Carrier, 44-Leads, Body 16.7x16.7mm, Pitch 1.27mm, IPC Medium Density)
footprint 44KW_L (Leaded Chip Carrier, 44-Leads, Body 16.7x16.7mm, Pitch 1.27mm, IPC High Density)
footprint 44KW_M (Leaded Chip Carrier, 44-Leads, Body 16.7x16.7mm, Pitch 1.27mm, IPC Low Density)
pins: 1 CLK/IN (in), 2 IN (in), 3 IN (in), 4 GND (power), 5 I/O0 (io), 6 I/O1 (io), 7 I/O2 (io), 8 I/O3 (io), 9 I/O4 (io), 10 I/O5 (io), 11 VCC (power), 12 VCC (power), 13 I/O17 (io), 14 I/O16 (io), 15 I/O15 (io), 16 I/O14 (io), 17 I/O13 (io), 18 I/O12 (io), 19 IN (in), 20 IN (in), 21 IN (in), 22 IN (in), 23 IN (in), 24 IN (in), 25 IN (in), 26 GND (power), 27 I/O18 (io), 28 I/O19 (io), 29 I/O20 (io), 30 I/O21 (io), 31 I/O22 (io), 32 I/O23 (io), 33 GND (power), 34 GND (power), 35 I/O11 (io), 36 I/O10 (io), 37 I/O9 (io), 38 I/O8 (io), 39 I/O7 (io), 40 I/O6 (io), 41 IN (in), 42 IN (in), 43 IN (in), 44 IN (in)

## ATV2500B-15KM
designator U?
ATV2500B 5.0V CPLD, 24 Macrocells, 44-lead Windowed JLCC, Speed Grade 15, Military Grade; DatasheetVersion: Rev. 0249J-05/00; PackageVersion: 1/12/1999; PackageReference: 44KW; PackageDescription: 44-Pin Window Ceramic Leaded Chip Carrier 1.27 mm Pitch; Code_IPC: PLCC-44; ComponentLink1Description: Manufacturer URL; ComponentLink1URL: http://www.atmel.com/; ComponentLink2Description: Datasheet; ComponentLink2URL: http://www.atmel.com/dyn/resources/prod_documents/DOC0249.PDF
footprint 44KW_N (Leaded Chip Carrier, 44-Leads, Body 16.7x16.7mm, Pitch 1.27mm, IPC Medium Density)
footprint 44KW_L (Leaded Chip Carrier, 44-Leads, Body 16.7x16.7mm, Pitch 1.27mm, IPC High Density)
footprint 44KW_M (Leaded Chip Carrier, 44-Leads, Body 16.7x16.7mm, Pitch 1.27mm, IPC Low Density)
pins: 1 CLK/IN (in), 2 IN (in), 3 IN (in), 4 GND (power), 5 I/O0 (io), 6 I/O1 (io), 7 I/O2 (io), 8 I/O3 (io), 9 I/O4 (io), 10 I/O5 (io), 11 VCC (power), 12 VCC (power), 13 I/O17 (io), 14 I/O16 (io), 15 I/O15 (io), 16 I/O14 (io), 17 I/O13 (io), 18 I/O12 (io), 19 IN (in), 20 IN (in), 21 IN (in), 22 IN (in), 23 IN (in), 24 IN (in), 25 IN (in), 26 GND (power), 27 I/O18 (io), 28 I/O19 (io), 29 I/O20 (io), 30 I/O21 (io), 31 I/O22 (io), 32 I/O23 (io), 33 GND (power), 34 GND (power), 35 I/O11 (io), 36 I/O10 (io), 37 I/O9 (io), 38 I/O8 (io), 39 I/O7 (io), 40 I/O6 (io), 41 IN (in), 42 IN (in), 43 IN (in), 44 IN (in)

## ATV2500B-15KM/883
designator U?
ATV2500B 5.0V CPLD, 24 Macrocells, 44-lead Windowed JLCC, Speed Grade 15, Military/883C Grade; DatasheetVersion: Rev. 0249J-05/00; PackageVersion: 1/12/1999; PackageReference: 44KW; PackageDescription: 44-Pin Window Ceramic Leaded Chip Carrier 1.27 mm Pitch; Code_IPC: PLCC-44; ComponentLink1Description: Manufacturer URL; ComponentLink1URL: http://www.atmel.com/; ComponentLink2Description: Datasheet; ComponentLink2URL: http://www.atmel.com/dyn/resources/prod_documents/DOC0249.PDF
footprint 44KW_N (Leaded Chip Carrier, 44-Leads, Body 16.7x16.7mm, Pitch 1.27mm, IPC Medium Density)
footprint 44KW_L (Leaded Chip Carrier, 44-Leads, Body 16.7x16.7mm, Pitch 1.27mm, IPC High Density)
footprint 44KW_M (Leaded Chip Carrier, 44-Leads, Body 16.7x16.7mm, Pitch 1.27mm, IPC Low Density)
pins: 1 CLK/IN (in), 2 IN (in), 3 IN (in), 4 GND (power), 5 I/O0 (io), 6 I/O1 (io), 7 I/O2 (io), 8 I/O3 (io), 9 I/O4 (io), 10 I/O5 (io), 11 VCC (power), 12 VCC (power), 13 I/O17 (io), 14 I/O16 (io), 15 I/O15 (io), 16 I/O14 (io), 17 I/O13 (io), 18 I/O12 (io), 19 IN (in), 20 IN (in), 21 IN (in), 22 IN (in), 23 IN (in), 24 IN (in), 25 IN (in), 26 GND (power), 27 I/O18 (io), 28 I/O19 (io), 29 I/O20 (io), 30 I/O21 (io), 31 I/O22 (io), 32 I/O23 (io), 33 GND (power), 34 GND (power), 35 I/O11 (io), 36 I/O10 (io), 37 I/O9 (io), 38 I/O8 (io), 39 I/O7 (io), 40 I/O6 (io), 41 IN (in), 42 IN (in), 43 IN (in), 44 IN (in)

## ATV2500B-15LM
designator U?
ATV2500B 5.0V CPLD, 24 Macrocells, 44-pad Windowed LCC, Speed Grade 15, Military Grade; DatasheetVersion: Rev. 0249J-05/00; PackageVersion: 1/12/1999; PackageReference: 44LW; PackageDescription: 44-Pin Window Ceramic Leadless Chip Carrier 1.27 mm Pitch; ComponentLink1Description: Manufacturer URL; ComponentLink1URL: http://www.atmel.com/; ComponentLink2Description: Datasheet; ComponentLink2URL: http://www.atmel.com/dyn/resources/prod_documents/DOC0249.PDF
footprint 44LW_N (Leadless Chip Carrier, 44-Leads, Body 16.5x16.5mm, Pitch 1.27mm, IPC Medium Density)
footprint 44LW_L (Leadless Chip Carrier, 44-Leads, Body 16.5x16.5mm, Pitch 1.27mm, IPC High Density)
footprint 44LW_M (Leadless Chip Carrier, 44-Leads, Body 16.5x16.5mm, Pitch 1.27mm, IPC Low Density)
pins: 1 CLK/IN (in), 2 IN (in), 3 IN (in), 4 GND (power), 5 I/O0 (io), 6 I/O1 (io), 7 I/O2 (io), 8 I/O3 (io), 9 I/O4 (io), 10 I/O5 (io), 11 VCC (power), 12 VCC (power), 13 I/O17 (io), 14 I/O16 (io), 15 I/O15 (io), 16 I/O14 (io), 17 I/O13 (io), 18 I/O12 (io), 19 IN (in), 20 IN (in), 21 IN (in), 22 IN (in), 23 IN (in), 24 IN (in), 25 IN (in), 26 GND (power), 27 I/O18 (io), 28 I/O19 (io), 29 I/O20 (io), 30 I/O21 (io), 31 I/O22 (io), 32 I/O23 (io), 33 GND (power), 34 GND (power), 35 I/O11 (io), 36 I/O10 (io), 37 I/O9 (io), 38 I/O8 (io), 39 I/O7 (io), 40 I/O6 (io), 41 IN (in), 42 IN (in), 43 IN (in), 44 IN (in)

## ATV2500B-15LM/883
designator U?
ATV2500B 5.0V CPLD, 24 Macrocells, 44-pad Windowed LCC, Speed Grade 15, Military/883C Grade; DatasheetVersion: Rev. 0249J-05/00; PackageVersion: 1/12/1999; PackageReference: 44LW; PackageDescription: 44-Pin Window Ceramic Leadless Chip Carrier 1.27 mm Pitch; ComponentLink1Description: Manufacturer URL; ComponentLink1URL: http://www.atmel.com/; ComponentLink2Description: Datasheet; ComponentLink2URL: http://www.atmel.com/dyn/resources/prod_documents/DOC0249.PDF
footprint 44LW_N (Leadless Chip Carrier, 44-Leads, Body 16.5x16.5mm, Pitch 1.27mm, IPC Medium Density)
footprint 44LW_L (Leadless Chip Carrier, 44-Leads, Body 16.5x16.5mm, Pitch 1.27mm, IPC High Density)
footprint 44LW_M (Leadless Chip Carrier, 44-Leads, Body 16.5x16.5mm, Pitch 1.27mm, IPC Low Density)
pins: 1 CLK/IN (in), 2 IN (in), 3 IN (in), 4 GND (power), 5 I/O0 (io), 6 I/O1 (io), 7 I/O2 (io), 8 I/O3 (io), 9 I/O4 (io), 10 I/O5 (io), 11 VCC (power), 12 VCC (power), 13 I/O17 (io), 14 I/O16 (io), 15 I/O15 (io), 16 I/O14 (io), 17 I/O13 (io), 18 I/O12 (io), 19 IN (in), 20 IN (in), 21 IN (in), 22 IN (in), 23 IN (in), 24 IN (in), 25 IN (in), 26 GND (power), 27 I/O18 (io), 28 I/O19 (io), 29 I/O20 (io), 30 I/O21 (io), 31 I/O22 (io), 32 I/O23 (io), 33 GND (power), 34 GND (power), 35 I/O11 (io), 36 I/O10 (io), 37 I/O9 (io), 38 I/O8 (io), 39 I/O7 (io), 40 I/O6 (io), 41 IN (in), 42 IN (in), 43 IN (in), 44 IN (in)

## ATV2500BL-20JC
designator U?
ATV2500B 5.0V CPLD, 24 Macrocells, 44-lead Non-windowed (OTP) PLCC, Speed Grade 20, Commercial Grade; DatasheetVersion: Rev. 0249J-05/00; PackageVersion: rev.B, Oct-2001; PackageReference: 44J; PackageDescription: 44-Pin Plastic J-Leaded Chip Carrier 1.27 mm Pitch (PLCC); Code_JEDEC: MS-018-AC; Code_IPC: PLCC-44; ComponentLink1Description: Manufacturer URL; ComponentLink1URL: http://www.atmel.com/; ComponentLink2Description: Datasheet; ComponentLink2URL: http://www.atmel.com/dyn/resources/prod_documents/DOC0249.PDF
footprint 44J_N (Leaded Chip Carrier, 44-Leads, Body 16.6x16.6mm, Pitch 1.27mm, IPC Medium Density)
footprint 44J_L (Leaded Chip Carrier, 44-Leads, Body 16.6x16.6mm, Pitch 1.27mm, IPC High Density)
footprint 44J_M (Leaded Chip Carrier, 44-Leads, Body 16.6x16.6mm, Pitch 1.27mm, IPC Low Density)
pins: 1 CLK/IN (in), 2 IN (in), 3 IN (in), 4 GND (power), 5 I/O0 (io), 6 I/O1 (io), 7 I/O2 (io), 8 I/O3 (io), 9 I/O4 (io), 10 I/O5 (io), 11 VCC (power), 12 VCC (power), 13 I/O17 (io), 14 I/O16 (io), 15 I/O15 (io), 16 I/O14 (io), 17 I/O13 (io), 18 I/O12 (io), 19 IN (in), 20 IN (in), 21 IN (in), 22 IN (in), 23 IN (in), 24 IN (in), 25 IN (in), 26 GND (power), 27 I/O18 (io), 28 I/O19 (io), 29 I/O20 (io), 30 I/O21 (io), 31 I/O22 (io), 32 I/O23 (io), 33 GND (power), 34 GND (power), 35 I/O11 (io), 36 I/O10 (io), 37 I/O9 (io), 38 I/O8 (io), 39 I/O7 (io), 40 I/O6 (io), 41 IN (in), 42 IN (in), 43 IN (in), 44 IN (in)

## ATV2500BL-20JI
designator U?
ATV2500B 5.0V CPLD, 24 Macrocells, 44-lead Non-windowed (OTP) PLCC, Speed Grade 20, Industrial Grade; DatasheetVersion: Rev. 0249J-05/00; PackageVersion: rev.B, Oct-2001; PackageReference: 44J; PackageDescription: 44-Pin Plastic J-Leaded Chip Carrier 1.27 mm Pitch (PLCC); Code_JEDEC: MS-018-AC; Code_IPC: PLCC-44; ComponentLink1Description: Manufacturer URL; ComponentLink1URL: http://www.atmel.com/; ComponentLink2Description: Datasheet; ComponentLink2URL: http://www.atmel.com/dyn/resources/prod_documents/DOC0249.PDF
footprint 44J_N (Leaded Chip Carrier, 44-Leads, Body 16.6x16.6mm, Pitch 1.27mm, IPC Medium Density)
footprint 44J_L (Leaded Chip Carrier, 44-Leads, Body 16.6x16.6mm, Pitch 1.27mm, IPC High Density)
footprint 44J_M (Leaded Chip Carrier, 44-Leads, Body 16.6x16.6mm, Pitch 1.27mm, IPC Low Density)
pins: 1 CLK/IN (in), 2 IN (in), 3 IN (in), 4 GND (power), 5 I/O0 (io), 6 I/O1 (io), 7 I/O2 (io), 8 I/O3 (io), 9 I/O4 (io), 10 I/O5 (io), 11 VCC (power), 12 VCC (power), 13 I/O17 (io), 14 I/O16 (io), 15 I/O15 (io), 16 I/O14 (io), 17 I/O13 (io), 18 I/O12 (io), 19 IN (in), 20 IN (in), 21 IN (in), 22 IN (in), 23 IN (in), 24 IN (in), 25 IN (in), 26 GND (power), 27 I/O18 (io), 28 I/O19 (io), 29 I/O20 (io), 30 I/O21 (io), 31 I/O22 (io), 32 I/O23 (io), 33 GND (power), 34 GND (power), 35 I/O11 (io), 36 I/O10 (io), 37 I/O9 (io), 38 I/O8 (io), 39 I/O7 (io), 40 I/O6 (io), 41 IN (in), 42 IN (in), 43 IN (in), 44 IN (in)

## ATV2500BL-20KC
designator U?
ATV2500B 5.0V CPLD, 24 Macrocells, 44-lead Windowed JLCC, Speed Grade 20, Commercial Grade; DatasheetVersion: Rev. 0249J-05/00; PackageVersion: 1/12/1999; PackageReference: 44KW; PackageDescription: 44-Pin Window Ceramic Leaded Chip Carrier 1.27 mm Pitch; Code_IPC: PLCC-44; ComponentLink1Description: Manufacturer URL; ComponentLink1URL: http://www.atmel.com/; ComponentLink2Description: Datasheet; ComponentLink2URL: http://www.atmel.com/dyn/resources/prod_documents/DOC0249.PDF
footprint 44KW_N (Leaded Chip Carrier, 44-Leads, Body 16.7x16.7mm, Pitch 1.27mm, IPC Medium Density)
footprint 44KW_L (Leaded Chip Carrier, 44-Leads, Body 16.7x16.7mm, Pitch 1.27mm, IPC High Density)
footprint 44KW_M (Leaded Chip Carrier, 44-Leads, Body 16.7x16.7mm, Pitch 1.27mm, IPC Low Density)
pins: 1 CLK/IN (in), 2 IN (in), 3 IN (in), 4 GND (power), 5 I/O0 (io), 6 I/O1 (io), 7 I/O2 (io), 8 I/O3 (io), 9 I/O4 (io), 10 I/O5 (io), 11 VCC (power), 12 VCC (power), 13 I/O17 (io), 14 I/O16 (io), 15 I/O15 (io), 16 I/O14 (io), 17 I/O13 (io), 18 I/O12 (io), 19 IN (in), 20 IN (in), 21 IN (in), 22 IN (in), 23 IN (in), 24 IN (in), 25 IN (in), 26 GND (power), 27 I/O18 (io), 28 I/O19 (io), 29 I/O20 (io), 30 I/O21 (io), 31 I/O22 (io), 32 I/O23 (io), 33 GND (power), 34 GND (power), 35 I/O11 (io), 36 I/O10 (io), 37 I/O9 (io), 38 I/O8 (io), 39 I/O7 (io), 40 I/O6 (io), 41 IN (in), 42 IN (in), 43 IN (in), 44 IN (in)

## ATV2500BL-20KI
designator U?
ATV2500B 5.0V CPLD, 24 Macrocells, 44-lead Windowed JLCC, Speed Grade 20, Industrial Grade; DatasheetVersion: Rev. 0249J-05/00; PackageVersion: 1/12/1999; PackageReference: 44KW; PackageDescription: 44-Pin Window Ceramic Leaded Chip Carrier 1.27 mm Pitch; Code_IPC: PLCC-44; ComponentLink1Description: Manufacturer URL; ComponentLink1URL: http://www.atmel.com/; ComponentLink2Description: Datasheet; ComponentLink2URL: http://www.atmel.com/dyn/resources/prod_documents/DOC0249.PDF
footprint 44KW_N (Leaded Chip Carrier, 44-Leads, Body 16.7x16.7mm, Pitch 1.27mm, IPC Medium Density)
footprint 44KW_L (Leaded Chip Carrier, 44-Leads, Body 16.7x16.7mm, Pitch 1.27mm, IPC High Density)
footprint 44KW_M (Leaded Chip Carrier, 44-Leads, Body 16.7x16.7mm, Pitch 1.27mm, IPC Low Density)
pins: 1 CLK/IN (in), 2 IN (in), 3 IN (in), 4 GND (power), 5 I/O0 (io), 6 I/O1 (io), 7 I/O2 (io), 8 I/O3 (io), 9 I/O4 (io), 10 I/O5 (io), 11 VCC (power), 12 VCC (power), 13 I/O17 (io), 14 I/O16 (io), 15 I/O15 (io), 16 I/O14 (io), 17 I/O13 (io), 18 I/O12 (io), 19 IN (in), 20 IN (in), 21 IN (in), 22 IN (in), 23 IN (in), 24 IN (in), 25 IN (in), 26 GND (power), 27 I/O18 (io), 28 I/O19 (io), 29 I/O20 (io), 30 I/O21 (io), 31 I/O22 (io), 32 I/O23 (io), 33 GND (power), 34 GND (power), 35 I/O11 (io), 36 I/O10 (io), 37 I/O9 (io), 38 I/O8 (io), 39 I/O7 (io), 40 I/O6 (io), 41 IN (in), 42 IN (in), 43 IN (in), 44 IN (in)

## ATV2500BL-20KM
designator U?
ATV2500B 5.0V CPLD, 24 Macrocells, 44-lead Windowed JLCC, Speed Grade 20, Military Grade; DatasheetVersion: Rev. 0249J-05/00; PackageVersion: 1/12/1999; PackageReference: 44KW; PackageDescription: 44-Pin Window Ceramic Leaded Chip Carrier 1.27 mm Pitch; Code_IPC: PLCC-44; ComponentLink1Description: Manufacturer URL; ComponentLink1URL: http://www.atmel.com/; ComponentLink2Description: Datasheet; ComponentLink2URL: http://www.atmel.com/dyn/resources/prod_documents/DOC0249.PDF
footprint 44KW_N (Leaded Chip Carrier, 44-Leads, Body 16.7x16.7mm, Pitch 1.27mm, IPC Medium Density)
footprint 44KW_L (Leaded Chip Carrier, 44-Leads, Body 16.7x16.7mm, Pitch 1.27mm, IPC High Density)
footprint 44KW_M (Leaded Chip Carrier, 44-Leads, Body 16.7x16.7mm, Pitch 1.27mm, IPC Low Density)
pins: 1 CLK/IN (in), 2 IN (in), 3 IN (in), 4 GND (power), 5 I/O0 (io), 6 I/O1 (io), 7 I/O2 (io), 8 I/O3 (io), 9 I/O4 (io), 10 I/O5 (io), 11 VCC (power), 12 VCC (power), 13 I/O17 (io), 14 I/O16 (io), 15 I/O15 (io), 16 I/O14 (io), 17 I/O13 (io), 18 I/O12 (io), 19 IN (in), 20 IN (in), 21 IN (in), 22 IN (in), 23 IN (in), 24 IN (in), 25 IN (in), 26 GND (power), 27 I/O18 (io), 28 I/O19 (io), 29 I/O20 (io), 30 I/O21 (io), 31 I/O22 (io), 32 I/O23 (io), 33 GND (power), 34 GND (power), 35 I/O11 (io), 36 I/O10 (io), 37 I/O9 (io), 38 I/O8 (io), 39 I/O7 (io), 40 I/O6 (io), 41 IN (in), 42 IN (in), 43 IN (in), 44 IN (in)

## ATV2500BL-20KM/883
designator U?
ATV2500B 5.0V CPLD, 24 Macrocells, 44-lead Windowed JLCC, Speed Grade 20, Military/883C Grade; DatasheetVersion: Rev. 0249J-05/00; PackageVersion: 1/12/1999; PackageReference: 44KW; PackageDescription: 44-Pin Window Ceramic Leaded Chip Carrier 1.27 mm Pitch; Code_IPC: PLCC-44; ComponentLink1Description: Manufacturer URL; ComponentLink1URL: http://www.atmel.com/; ComponentLink2Description: Datasheet; ComponentLink2URL: http://www.atmel.com/dyn/resources/prod_documents/DOC0249.PDF
footprint 44KW_N (Leaded Chip Carrier, 44-Leads, Body 16.7x16.7mm, Pitch 1.27mm, IPC Medium Density)
footprint 44KW_L (Leaded Chip Carrier, 44-Leads, Body 16.7x16.7mm, Pitch 1.27mm, IPC High Density)
footprint 44KW_M (Leaded Chip Carrier, 44-Leads, Body 16.7x16.7mm, Pitch 1.27mm, IPC Low Density)
pins: 1 CLK/IN (in), 2 IN (in), 3 IN (in), 4 GND (power), 5 I/O0 (io), 6 I/O1 (io), 7 I/O2 (io), 8 I/O3 (io), 9 I/O4 (io), 10 I/O5 (io), 11 VCC (power), 12 VCC (power), 13 I/O17 (io), 14 I/O16 (io), 15 I/O15 (io), 16 I/O14 (io), 17 I/O13 (io), 18 I/O12 (io), 19 IN (in), 20 IN (in), 21 IN (in), 22 IN (in), 23 IN (in), 24 IN (in), 25 IN (in), 26 GND (power), 27 I/O18 (io), 28 I/O19 (io), 29 I/O20 (io), 30 I/O21 (io), 31 I/O22 (io), 32 I/O23 (io), 33 GND (power), 34 GND (power), 35 I/O11 (io), 36 I/O10 (io), 37 I/O9 (io), 38 I/O8 (io), 39 I/O7 (io), 40 I/O6 (io), 41 IN (in), 42 IN (in), 43 IN (in), 44 IN (in)

## ATV2500BL-20LM
designator U?
ATV2500B 5.0V CPLD, 24 Macrocells, 44-pad Windowed LCC, Speed Grade 20, Military Grade; DatasheetVersion: Rev. 0249J-05/00; PackageVersion: 1/12/1999; PackageReference: 44LW; PackageDescription: 44-Pin Window Ceramic Leadless Chip Carrier 1.27 mm Pitch; ComponentLink1Description: Manufacturer URL; ComponentLink1URL: http://www.atmel.com/; ComponentLink2Description: Datasheet; ComponentLink2URL: http://www.atmel.com/dyn/resources/prod_documents/DOC0249.PDF
footprint 44LW_N (Leadless Chip Carrier, 44-Leads, Body 16.5x16.5mm, Pitch 1.27mm, IPC Medium Density)
footprint 44LW_L (Leadless Chip Carrier, 44-Leads, Body 16.5x16.5mm, Pitch 1.27mm, IPC High Density)
footprint 44LW_M (Leadless Chip Carrier, 44-Leads, Body 16.5x16.5mm, Pitch 1.27mm, IPC Low Density)
pins: 1 CLK/IN (in), 2 IN (in), 3 IN (in), 4 GND (power), 5 I/O0 (io), 6 I/O1 (io), 7 I/O2 (io), 8 I/O3 (io), 9 I/O4 (io), 10 I/O5 (io), 11 VCC (power), 12 VCC (power), 13 I/O17 (io), 14 I/O16 (io), 15 I/O15 (io), 16 I/O14 (io), 17 I/O13 (io), 18 I/O12 (io), 19 IN (in), 20 IN (in), 21 IN (in), 22 IN (in), 23 IN (in), 24 IN (in), 25 IN (in), 26 GND (power), 27 I/O18 (io), 28 I/O19 (io), 29 I/O20 (io), 30 I/O21 (io), 31 I/O22 (io), 32 I/O23 (io), 33 GND (power), 34 GND (power), 35 I/O11 (io), 36 I/O10 (io), 37 I/O9 (io), 38 I/O8 (io), 39 I/O7 (io), 40 I/O6 (io), 41 IN (in), 42 IN (in), 43 IN (in), 44 IN (in)

## ATV2500BL-20LM/883
designator U?
ATV2500B 5.0V CPLD, 24 Macrocells, 44-pad Windowed LCC, Speed Grade 20, Military/883C Grade; DatasheetVersion: Rev. 0249J-05/00; PackageVersion: 1/12/1999; PackageReference: 44LW; PackageDescription: 44-Pin Window Ceramic Leadless Chip Carrier 1.27 mm Pitch; ComponentLink1Description: Manufacturer URL; ComponentLink1URL: http://www.atmel.com/; ComponentLink2Description: Datasheet; ComponentLink2URL: http://www.atmel.com/dyn/resources/prod_documents/DOC0249.PDF
footprint 44LW_N (Leadless Chip Carrier, 44-Leads, Body 16.5x16.5mm, Pitch 1.27mm, IPC Medium Density)
footprint 44LW_L (Leadless Chip Carrier, 44-Leads, Body 16.5x16.5mm, Pitch 1.27mm, IPC High Density)
footprint 44LW_M (Leadless Chip Carrier, 44-Leads, Body 16.5x16.5mm, Pitch 1.27mm, IPC Low Density)
pins: 1 CLK/IN (in), 2 IN (in), 3 IN (in), 4 GND (power), 5 I/O0 (io), 6 I/O1 (io), 7 I/O2 (io), 8 I/O3 (io), 9 I/O4 (io), 10 I/O5 (io), 11 VCC (power), 12 VCC (power), 13 I/O17 (io), 14 I/O16 (io), 15 I/O15 (io), 16 I/O14 (io), 17 I/O13 (io), 18 I/O12 (io), 19 IN (in), 20 IN (in), 21 IN (in), 22 IN (in), 23 IN (in), 24 IN (in), 25 IN (in), 26 GND (power), 27 I/O18 (io), 28 I/O19 (io), 29 I/O20 (io), 30 I/O21 (io), 31 I/O22 (io), 32 I/O23 (io), 33 GND (power), 34 GND (power), 35 I/O11 (io), 36 I/O10 (io), 37 I/O9 (io), 38 I/O8 (io), 39 I/O7 (io), 40 I/O6 (io), 41 IN (in), 42 IN (in), 43 IN (in), 44 IN (in)

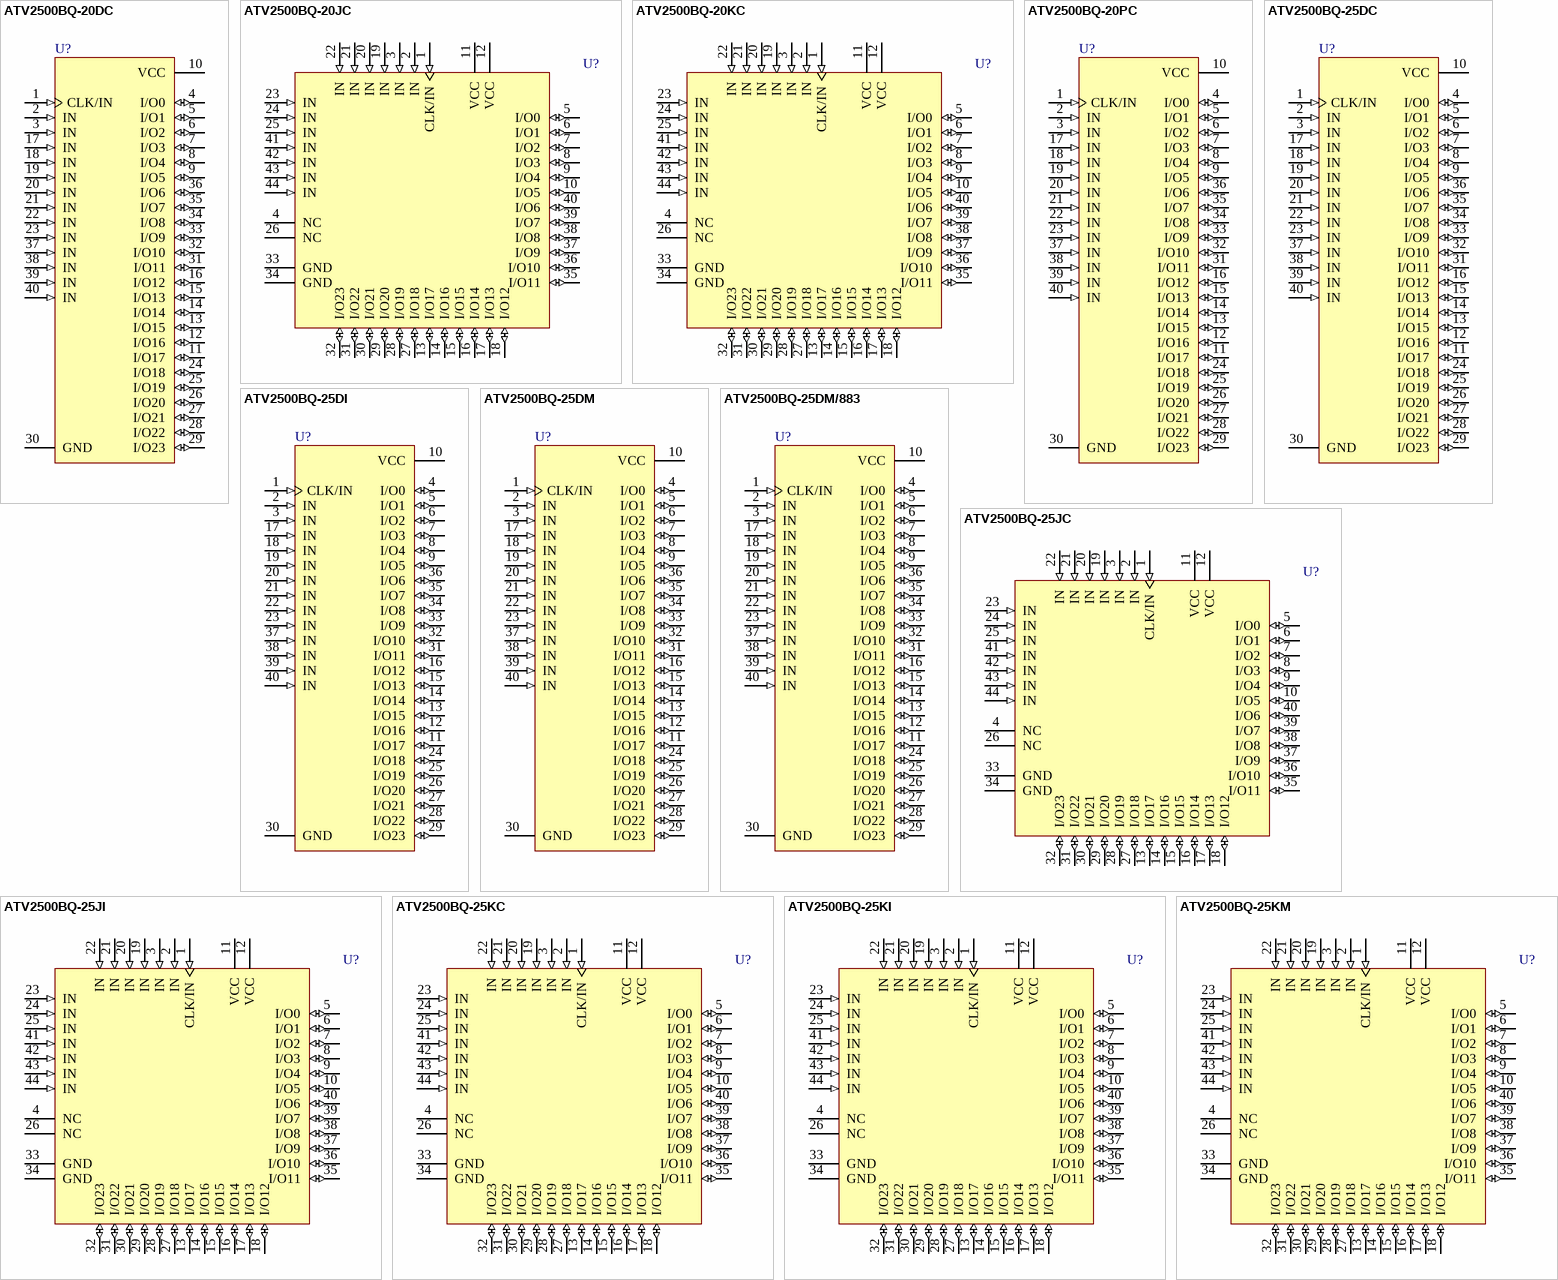
[diagram p4: symbols ATV2500BQ-20DC to ATV2500BQ-25KM]

## ATV2500BQ-20DC
designator U?
ATV2500BQ 5.0V CPLD, 24 Macrocells, 40-lead Windowed CerDIP, Speed Grade 20, Commercial Grade; DatasheetVersion: Rev. 0249J-05/00; PackageVersion: 1/12/1999; PackageReference: 40DW6; PackageDescription: DIP, 40-Pin, Row Spacing 15.24 mm, Pitch 2.54 mm; Code_JEDEC: MS-011-AC; ComponentLink1Description: Manufacturer URL; ComponentLink1URL: http://www.atmel.com/; ComponentLink2Description: Datasheet; ComponentLink2URL: http://www.atmel.com/dyn/resources/prod_documents/DOC0249.PDF
footprint 40DW6 (DIP, 40-Leads, Row Spacing 15.24mm, Pitch 2.54mm, Body 52.45x15mm)
pins: 1 CLK/IN (in), 2 IN (in), 3 IN (in), 4 I/O0 (io), 5 I/O1 (io), 6 I/O2 (io), 7 I/O3 (io), 8 I/O4 (io), 9 I/O5 (io), 10 VCC (power), 11 I/O17 (io), 12 I/O16 (io), 13 I/O15 (io), 14 I/O14 (io), 15 I/O13 (io), 16 I/O12 (io), 17 IN (in), 18 IN (in), 19 IN (in), 20 IN (in), 21 IN (in), 22 IN (in), 23 IN (in), 24 I/O18 (io), 25 I/O19 (io), 26 I/O20 (io), 27 I/O21 (io), 28 I/O22 (io), 29 I/O23 (io), 30 GND (power), 31 I/O11 (io), 32 I/O10 (io), 33 I/O9 (io), 34 I/O8 (io), 35 I/O7 (io), 36 I/O6 (io), 37 IN (in), 38 IN (in), 39 IN (in), 40 IN (in)

## ATV2500BQ-20JC
designator U?
ATV2500BQ 5.0V CPLD, 24 Macrocells, 44-lead Non-windowed (OTP) PLCC, Speed Grade 20, Commercial Grade; Note: Pin 4 and pin 26 connections are not required.; DatasheetVersion: Rev. 0249J-05/00; PackageVersion: rev.B, Oct-2001; PackageReference: 44J; PackageDescription: 44-Pin Plastic J-Leaded Chip Carrier 1.27 mm Pitch (PLCC); Code_JEDEC: MS-018-AC; Code_IPC: PLCC-44; ComponentLink1Description: Manufacturer URL; ComponentLink1URL: http://www.atmel.com/; ComponentLink2Description: Datasheet; ComponentLink2URL: http://www.atmel.com/dyn/resources/prod_documents/DOC0249.PDF
footprint 44J_N (Leaded Chip Carrier, 44-Leads, Body 16.6x16.6mm, Pitch 1.27mm, IPC Medium Density)
footprint 44J_L (Leaded Chip Carrier, 44-Leads, Body 16.6x16.6mm, Pitch 1.27mm, IPC High Density)
footprint 44J_M (Leaded Chip Carrier, 44-Leads, Body 16.6x16.6mm, Pitch 1.27mm, IPC Low Density)
pins: 1 CLK/IN (in), 2 IN (in), 3 IN (in), 4 NC, 5 I/O0 (io), 6 I/O1 (io), 7 I/O2 (io), 8 I/O3 (io), 9 I/O4 (io), 10 I/O5 (io), 11 VCC (power), 12 VCC (power), 13 I/O17 (io), 14 I/O16 (io), 15 I/O15 (io), 16 I/O14 (io), 17 I/O13 (io), 18 I/O12 (io), 19 IN (in), 20 IN (in), 21 IN (in), 22 IN (in), 23 IN (in), 24 IN (in), 25 IN (in), 26 NC, 27 I/O18 (io), 28 I/O19 (io), 29 I/O20 (io), 30 I/O21 (io), 31 I/O22 (io), 32 I/O23 (io), 33 GND (power), 34 GND (power), 35 I/O11 (io), 36 I/O10 (io), 37 I/O9 (io), 38 I/O8 (io), 39 I/O7 (io), 40 I/O6 (io), 41 IN (in), 42 IN (in), 43 IN (in), 44 IN (in)

## ATV2500BQ-20KC
designator U?
ATV2500BQ 5.0V CPLD, 24 Macrocells, 44-lead Windowed JLCC, Speed Grade 20, Commercial Grade; Note: Pin 4 and pin 26 connections are not required.; DatasheetVersion: Rev. 0249J-05/00; PackageVersion: 1/12/1999; PackageReference: 44KW; PackageDescription: 44-Pin Window Ceramic Leaded Chip Carrier 1.27 mm Pitch; Code_IPC: PLCC-44; ComponentLink1Description: Manufacturer URL; ComponentLink1URL: http://www.atmel.com/; ComponentLink2Description: Datasheet; ComponentLink2URL: http://www.atmel.com/dyn/resources/prod_documents/DOC0249.PDF
footprint 44KW_N (Leaded Chip Carrier, 44-Leads, Body 16.7x16.7mm, Pitch 1.27mm, IPC Medium Density)
footprint 44KW_L (Leaded Chip Carrier, 44-Leads, Body 16.7x16.7mm, Pitch 1.27mm, IPC High Density)
footprint 44KW_M (Leaded Chip Carrier, 44-Leads, Body 16.7x16.7mm, Pitch 1.27mm, IPC Low Density)
pins: 1 CLK/IN (in), 2 IN (in), 3 IN (in), 4 NC, 5 I/O0 (io), 6 I/O1 (io), 7 I/O2 (io), 8 I/O3 (io), 9 I/O4 (io), 10 I/O5 (io), 11 VCC (power), 12 VCC (power), 13 I/O17 (io), 14 I/O16 (io), 15 I/O15 (io), 16 I/O14 (io), 17 I/O13 (io), 18 I/O12 (io), 19 IN (in), 20 IN (in), 21 IN (in), 22 IN (in), 23 IN (in), 24 IN (in), 25 IN (in), 26 NC, 27 I/O18 (io), 28 I/O19 (io), 29 I/O20 (io), 30 I/O21 (io), 31 I/O22 (io), 32 I/O23 (io), 33 GND (power), 34 GND (power), 35 I/O11 (io), 36 I/O10 (io), 37 I/O9 (io), 38 I/O8 (io), 39 I/O7 (io), 40 I/O6 (io), 41 IN (in), 42 IN (in), 43 IN (in), 44 IN (in)

## ATV2500BQ-20PC
designator U?
ATV2500BQ 5.0V CPLD, 24 Macrocells, 40-lead PDIP, Speed Grade 20, Commercial Grade; DatasheetVersion: Rev. 0249J-05/00; PackageVersion: revB, Sep-2001; PackageReference: 40P6; PackageDescription: 40-lead (0.600"/15.24mm Wide) Plastic Dual Inline Package (PDIP); Code_JEDEC: MS-011-AC; ComponentLink1Description: Manufacturer URL; ComponentLink1URL: http://www.atmel.com/; ComponentLink2Description: Datasheet; ComponentLink2URL: http://www.atmel.com/dyn/resources/prod_documents/DOC0249.PDF
footprint 40P6 (DIP, 40-Leads, Row Spacing 15.24mm, Pitch 2.54mm, Body 52.2x13.95mm)
pins: 1 CLK/IN (in), 2 IN (in), 3 IN (in), 4 I/O0 (io), 5 I/O1 (io), 6 I/O2 (io), 7 I/O3 (io), 8 I/O4 (io), 9 I/O5 (io), 10 VCC (power), 11 I/O17 (io), 12 I/O16 (io), 13 I/O15 (io), 14 I/O14 (io), 15 I/O13 (io), 16 I/O12 (io), 17 IN (in), 18 IN (in), 19 IN (in), 20 IN (in), 21 IN (in), 22 IN (in), 23 IN (in), 24 I/O18 (io), 25 I/O19 (io), 26 I/O20 (io), 27 I/O21 (io), 28 I/O22 (io), 29 I/O23 (io), 30 GND (power), 31 I/O11 (io), 32 I/O10 (io), 33 I/O9 (io), 34 I/O8 (io), 35 I/O7 (io), 36 I/O6 (io), 37 IN (in), 38 IN (in), 39 IN (in), 40 IN (in)